# EAGLE library part SW_2P2T (library logic-supply)
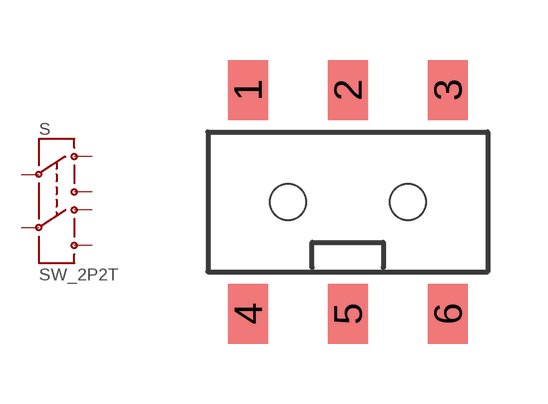
[diagram p39: symbol with the pads of IS-1390; footprint IS-1390]

Designator prefix S

## SW_2P2T_IS-1390  [IS-1390]
1  1
2  2
3  3
4  4
5  5
6  6

## Footprint IS-1390 (pad centres in mm)
Switronic IS-1390 2P2T SMD slide switch.
smd 1 x 1.5: 1 -2.5,2.8; 2 0,2.8; 3 2.5,2.8; 4 -2.5,-2.8; 5 0,-2.8; 6 2.5,-2.8
hole 0.9 at -1.5,0
hole 0.9 at 1.5,0